# EAGLE library part SI5347* (library Silicon Labs)
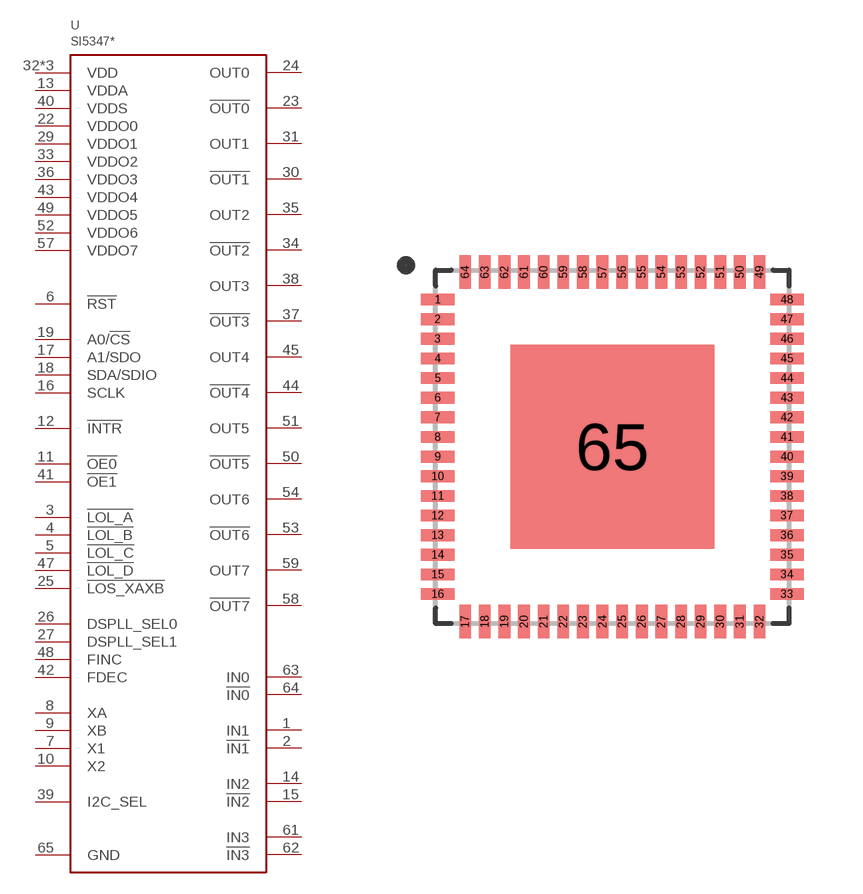
[diagram p11: symbol with the pads of QFN64-L-PAD; footprint QFN64-L-PAD]

Designator prefix U

## SI5347A, SI5347B, SI5347C, SI5347D  [QFN64-L-PAD]
1  IN1
2  !IN1
3  !LOL_A
4  !LOL_B
5  !LOL_C
6  !RST
7  X1
8  XA
9  XB
10  X2
11  !OE0
12  !INTR
13  VDDA
14  IN2
15  !IN2
16  SCLK
17  A1/SDO
18  SDA/SDIO
19  A0/!CS
22  VDDO0
23  !OUT0
24  OUT0
25  !LOS_XAXB
26  DSPLL_SEL0
27  DSPLL_SEL1
29  VDDO1
30  !OUT1
31  OUT1
32  VDD
33  VDDO2
34  !OUT2
35  OUT2
36  VDDO3
37  !OUT3
38  OUT3
39  I2C_SEL
40  VDDS
41  !OE1
42  FDEC
43  VDDO4
44  !OUT4
45  OUT4
46  VDD
47  !LOL_D
48  FINC
49  VDDO5
50  !OUT5
51  OUT5
52  VDDO6
53  !OUT6
54  OUT6
57  VDDO7
58  !OUT7
59  OUT7
60  VDD
61  IN3
62  !IN3
63  IN0
64  !IN0
65  GND

## Footprint QFN64-L-PAD (pad centres in mm)
smd 0.85 x 0.3: 1 -4.45,3.75; 2 -4.45,3.25; 3 -4.45,2.75; 4 -4.45,2.25; 5 -4.45,1.75; 6 -4.45,1.25; 7 -4.45,0.75; 8 -4.45,0.25; 9 -4.45,-0.25; 10 -4.45,-0.75; 11 -4.45,-1.25; 12 -4.45,-1.75; 13 -4.45,-2.25; 14 -4.45,-2.75; 15 -4.45,-3.25; 16 -4.45,-3.75; 33 4.45,-3.75; 34 4.45,-3.25; 35 4.45,-2.75; 36 4.45,-2.25; 37 4.45,-1.75; 38 4.45,-1.25; 39 4.45,-0.75; 40 4.45,-0.25; 41 4.45,0.25; 42 4.45,0.75; 43 4.45,1.25; 44 4.45,1.75; 45 4.45,2.25; 46 4.45,2.75; 47 4.45,3.25; 48 4.45,3.75
smd 0.3 x 0.85: 17 -3.75,-4.45; 18 -3.25,-4.45; 19 -2.75,-4.45; 20 -2.25,-4.45; 21 -1.75,-4.45; 22 -1.25,-4.45; 23 -0.75,-4.45; 24 -0.25,-4.45; 25 0.25,-4.45; 26 0.75,-4.45; 27 1.25,-4.45; 28 1.75,-4.45; 29 2.25,-4.45; 30 2.75,-4.45; 31 3.25,-4.45; 32 3.75,-4.45; 49 3.75,4.45; 50 3.25,4.45; 51 2.75,4.45; 52 2.25,4.45; 53 1.75,4.45; 54 1.25,4.45; 55 0.75,4.45; 56 0.25,4.45; 57 -0.25,4.45; 58 -0.75,4.45; 59 -1.25,4.45; 60 -1.75,4.45; 61 -2.25,4.45; 62 -2.75,4.45; 63 -3.25,4.45; 64 -3.75,4.45
smd 5.2 x 5.2: 65 0,0